# EAGLE library part MAX6630MTT+ (library hf-controller)
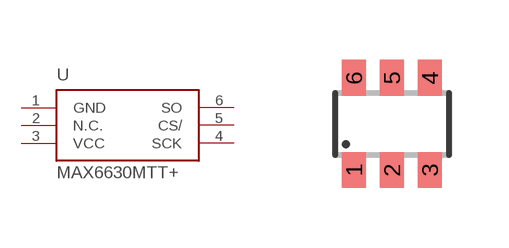
[diagram p0: symbol with the pads of MAX6630MTT+; footprint MAX6630MTT+]

Designator prefix -

## MAX6630MTT+  [MAX6630MTT+]
1  GND  pwr
2  N.C.  nc
3  VCC  pwr
4  SCK
5  CS/
6  SO

## Footprint MAX6630MTT+ (pad centres in mm)
smd 0.6 x 0.9: 1 -0.95,-1.15; 2 0,-1.15; 3 0.95,-1.15; 4 0.95,1.15; 5 0,1.15; 6 -0.95,1.15